# EAGLE library part RFDUINO (library howell)
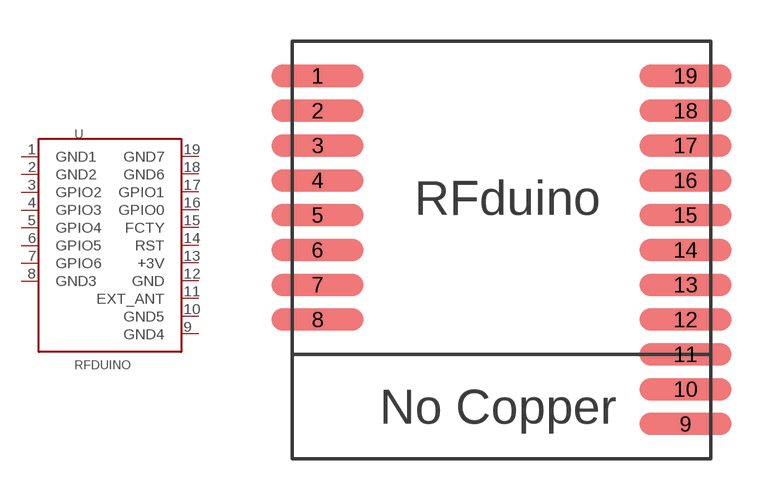
[diagram p6: symbol with the pads of RFDUINO; footprint RFDUINO]

Designator prefix -

## RFDUINO  [RFDUINO]
1  GND1
2  GND2
3  GPIO2
4  GPIO3
5  GPIO4
6  GPIO5
7  GPIO6
8  GND3
9  GND4
10  GND5
11  EXT_ANT
12  GND
13  +3V
14  RST
15  FCTY
16  GPIO0
17  GPIO1
18  GND6
19  GND7

## Footprint RFDUINO (pad centres in mm)
smd 3.353 x 0.813: 1 -6.706,6.35; 2 -6.706,5.08; 3 -6.706,3.81; 4 -6.706,2.54; 5 -6.706,1.27; 6 -6.706,0; 7 -6.706,-1.27; 8 -6.706,-2.54; 9 6.706,-6.35; 10 6.706,-5.08; 11 6.706,-3.81; 12 6.706,-2.54; 13 6.706,-1.27; 14 6.706,0; 15 6.706,1.27; 16 6.706,2.54; 17 6.706,3.81; 18 6.706,5.08; 19 6.706,6.35